# Altium footprint library do-214aa.PcbLib: 1 footprints
Each footprint in its own frame and in the unit in brackets; x right, y up, seen from the top. Pads: shape width x height; smd on the part's side, far side on the other; paste and mask are expansions set on the pad; w line width, h text height; cw(c..) or ccw(c..) is an arc to the next point about the centre after c.
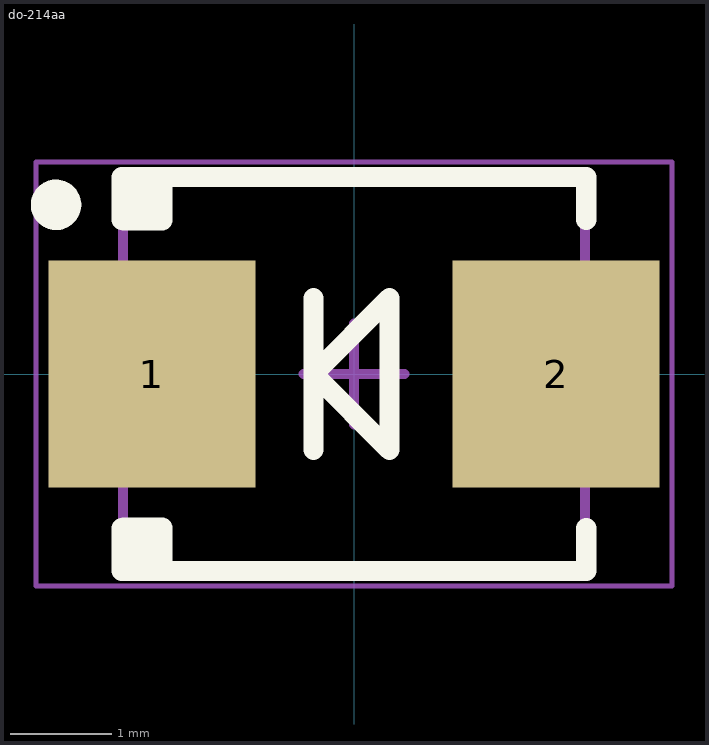
[diagram p0: the footprint, top view; thin cyan lines are the x and y axes]

## do-214aa [mm] "DO-214AA, SMB"
height 2.5
pads (2):
  rect 2.05x2.25 smd: 1(-2,0) 2(2,0)
Top Overlay:
  circle w0.25: c-2.95,1.675 r0.125
  region: -2.3,1.95 -2.3,1.425 -1.9,1.425 -1.88,1.425 -1.843,1.44 -1.815,1.468 -1.8,1.505 -1.8,1.525 -1.8,1.95
  region: -2.3,-1.95 -2.3,-1.425 -1.9,-1.425 -1.88,-1.425 -1.843,-1.44 -1.815,-1.468 -1.8,-1.505 -1.8,-1.525 -1.8,-1.95
  lines w0.2: -2.3,-1.525 -2.3,-1.95 2.3,-1.95 2.3,-1.525 ; -2.3,1.525 -2.3,1.95 2.3,1.95 2.3,1.525 ; -0.4,-0.75 -0.4,0 ; -0.4,0.75 -0.4,0 ; -0.4,0 0.35,-0.75 0.35,0.75 -0.4,0
Mechanical 13:
  lines w0.1: -2.285,-1.97 2.285,-1.97 2.285,1.97 -2.285,1.97 -2.285,-1.97
Mechanical 15:
  lines w0.05: -3.15,-2.1 3.15,-2.1 3.15,2.1 -3.15,2.1 -3.15,-2.1
  lines w0.1: -0.5,0 0.5,0 ; 0,-0.5 0,0.5
3D body: height 2.5, standoff 0, extent -2.285,-1.97 2.285,1.97